# Altium schematic symbol library 1935190.SchLib: 2 symbols
Pins are listed as number, name and electrical type; pins without a type are passive.

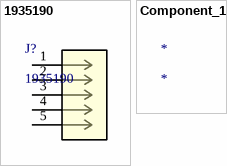
[diagram p0: symbols 1935190 to Component_1]

## 1935190
designator J?
No Description Available; Mfr_Name: Phoenix Contact; Copyright: Copyright (C) 2022 Ultra Librarian. All rights reserved.; Manufacturer_Part_Number: 1935190; Digi-Key_Part_Number_1: 277-1580-ND; RefDes: RefDes; Type: DEV
footprint CONN_1935190_PXC
pins: 1, 2, 3, 4, 5

## Component_1
designator *